# Altium schematic symbol library BQ79616-Q1.Schlib: 1 symbol
Pins are listed as number, name and electrical type; pins without a type are passive.

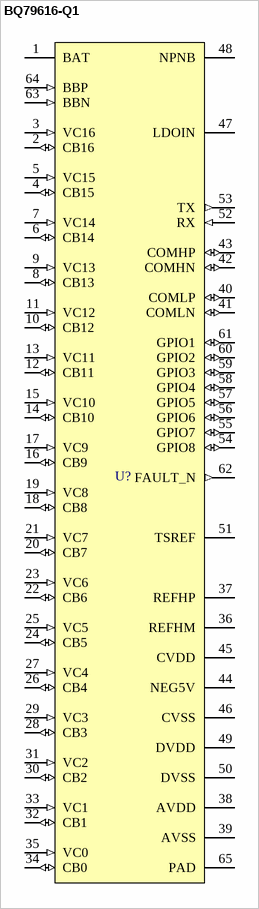
[diagram p0: symbol BQ79616-Q1]

## BQ79616-Q1
designator U?
Functional Safety-Compliant Automotive 16S Battery Monitor, Balancer
pins: 1 BAT (power), 2 CB16 (io), 3 VC16 (in), 4 CB15 (io), 5 VC15 (in), 6 CB14 (io), 7 VC14 (in), 8 CB13 (io), 9 VC13 (in), 10 CB12 (io), 11 VC12 (in), 12 CB11 (io), 13 VC11 (in), 14 CB10 (io), 15 VC10 (in), 16 CB9 (io), 17 VC9 (in), 18 CB8 (io), 19 VC8 (in), 20 CB7 (io), 21 VC7 (in), 22 CB6 (io), 23 VC6 (in), 24 CB5 (io), 25 VC5 (in), 26 CB4 (io), 27 VC4 (in), 28 CB3 (io), 29 VC3 (in), 30 CB2 (io), 31 VC2 (in), 32 CB1 (io), 33 VC1 (in), 34 CB0 (io), 35 VC0 (in), 36 REFHM (power), 37 REFHP (power), 38 AVDD (power), 39 AVSS (power), 40 COMLP (io), 41 COMLN (io), 42 COMHN (io), 43 COMHP (io), 44 NEG5V (power), 45 CVDD (power), 46 CVSS (power), 47 LDOIN (power), 48 NPNB (power), 49 DVDD (power), 50 DVSS (power), 51 TSREF (power), 52 RX (in), 53 TX (out), 54 GPIO8 (io), 55 GPIO7 (io), 56 GPIO6 (io), 57 GPIO5 (io), 58 GPIO4 (io), 59 GPIO3 (io), 60 GPIO2 (io), 61 GPIO1 (io), 62 FAULT_N (out), 63 BBN (in), 64 BBP (in), 65 PAD